# Altium integrated library Integrated_Library1.IntLib: 1 symbol
Pins are listed as number, name and electrical type; pins without a type are passive.

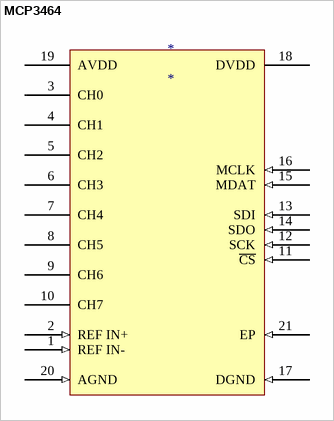
[diagram p0: symbol MCP3464]

## MCP3464
designator *
pins: 1 REF IN- (in), 2 REF IN+ (in), 3 CH0 (power), 4 CH1 (power), 5 CH2 (power), 6 CH3 (power), 7 CH4 (power), 8 CH5 (power), 9 CH6 (power), 10 CH7 (power), 11 ~{CS} (in), 12 SCK (in), 13 SDI (in), 14 SDO (in), 15 MDAT (in), 16 MCLK (in), 17 DGND (in), 18 DVDD (power), 19 AVDD (power), 20 AGND (in), 21 EP (in)